# Altium schematic symbol library L293D.SchLib: 1 symbol
Pins are listed as number, name and electrical type; pins without a type are passive.

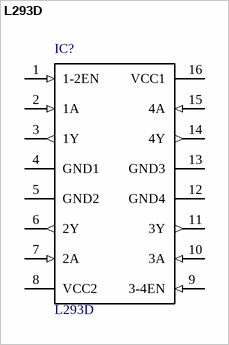
[diagram p0: symbol L293D]

## L293D
designator IC?
Driver; 36V; Power DIP; 600mA Low LevelO/P; 1.2A O/P High Level; 4 Drivers; 7V; MF: STMicroelectronics; Package: SOIC-20 STMicroelectronics; MP: L293D; Availability: Good; Price: 2.59 USD; Value: *
footprint DIL16
pins: 1 1-2EN (in), 2 1A (in), 3 1Y (out), 4 GND1 (power), 5 GND2 (power), 6 2Y (out), 7 2A (in), 8 VCC2 (power), 9 3-4EN (in), 10 3A (in), 11 3Y (out), 12 GND4 (power), 13 GND3 (power), 14 4Y (out), 15 4A (in), 16 VCC1 (power)